# EAGLE library part B24B-PHDSS (library con-jst-phd)
JST PHD series header 2.00mm pitch disconnectable crimp style connectors, vertical (side entry type), 24 pins
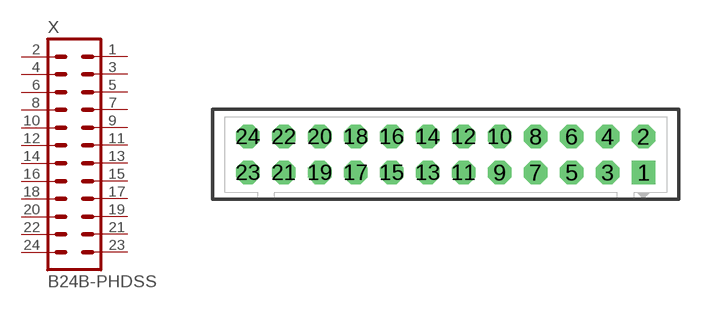
[diagram p8: symbol with the pads of B24B-PHDSS; footprint B24B-PHDSS]

Designator prefix X

## B24B-PHDSS  [B24B-PHDSS]
1  1  pas
2  2  pas
3  3  pas
4  4  pas
5  5  pas
6  6  pas
7  7  pas
8  8  pas
9  9  pas
10  10  pas
11  11  pas
12  12  pas
13  13  pas
14  14  pas
15  15  pas
16  16  pas
17  17  pas
18  18  pas
19  19  pas
20  20  pas
21  21  pas
22  22  pas
23  23  pas
24  24  pas

## B24B-PHDSS-B  [B24B-PHDSS]
Pads as for B24B-PHDSS

## Footprint B24B-PHDSS (pad centres in mm)
JST PHD series header 2.00mm pitch disconnectable crimp style connectors, through-hole vertical (top entry type), 24 pins
drill 0.7 pad 1.321 square: 1 11,-1
drill 0.7 pad 1.321 octagon: 2 11,1; 3 9,-1; 4 9,1; 5 7,-1; 6 7,1; 7 5,-1; 8 5,1; 9 3,-1; 10 3,1; 11 1,-1; 12 1,1; 13 -1,-1; 14 -1,1; 15 -3,-1; 16 -3,1; 17 -5,-1; 18 -5,1; 19 -7,-1; 20 -7,1; 21 -9,-1; 22 -9,1; 23 -11,-1; 24 -11,1